# Altium footprint library 430182043816.PcbLib: 1 footprints
Each footprint in its own frame and in the unit in brackets; x right, y up, seen from the top. Pads: shape width x height; smd on the part's side, far side on the other; paste and mask are expansions set on the pad; w line width, h text height; cw(c..) or ccw(c..) is an arc to the next point about the centre after c.
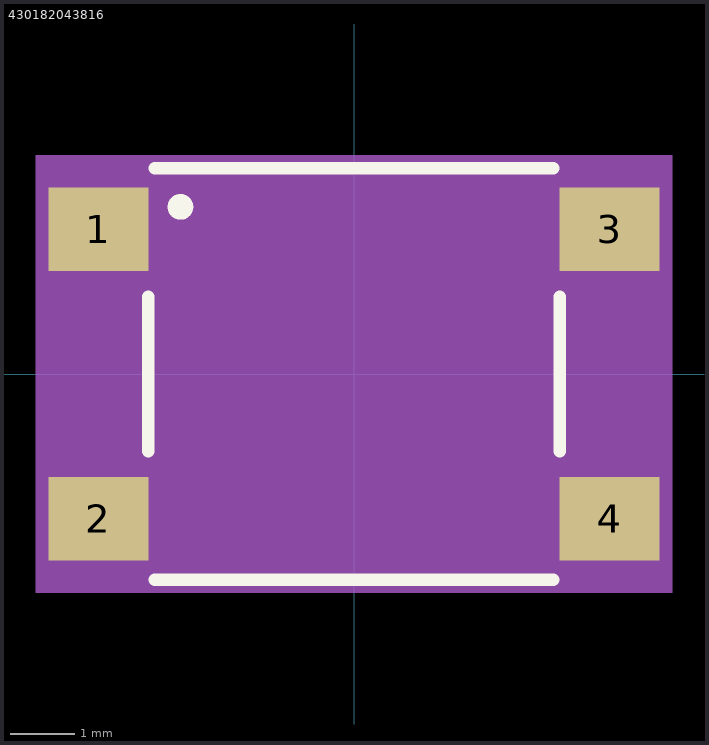
[diagram p0: the footprint, top view; thin cyan lines are the x and y axes]

## 430182043816 [mm]
pads (4):
  rect 1.55x1.3 smd: 1(-3.975,2.25) 2(-3.975,-2.25) 3(3.975,2.25) 4(3.975,-2.25)
Top Overlay:
  circle w0.2: c-2.7,2.6 r0.1
  lines w0.2: -3.2,-1.2 -3.2,1.2 ; -3.1,-3.2 3.1,-3.2 ; -3.1,3.2 3.1,3.2 ; 3.2,-1.2 3.2,1.2
Assembly Top:
  lines w0.1: -3.1,-3.1 3.1,-3.1 3.1,3.1 -3.1,3.1 -3.1,-3.1
Courtyard Top:
  region: 4.95,-3.4 -4.95,-3.4 -4.95,3.4 4.95,3.4
3D body "step_temp.STEP": height 3.1, standoff -3.1, extent -4.5,-4.3 4.5,0